# Altium integrated library Micro-Fit_2x01P.IntLib: 1 symbol
Pins are listed as number, name and electrical type; pins without a type are passive.

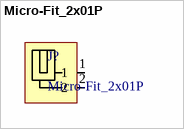
[diagram p0: symbol Micro-Fit_2x01P]

## Micro-Fit_2x01P
designator J?
footprint Micro-Fit_2X01P
pins: 1, 2